# EAGLE library part 3M-SOIC-SOCKET (library LITTLEBITS140915)
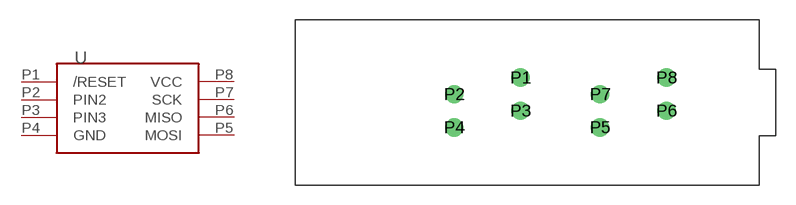
[diagram p24: symbol with the pads of 3M-SOIC-SOCKET; footprint 3M-SOIC-SOCKET]

Designator prefix -

## 3M-SOIC-SOCKET  [3M-SOIC-SOCKET]
P1  /RESET
P2  PIN2
P3  PIN3
P4  GND
P5  MOSI
P6  MISO
P7  SCK
P8  VCC

## 3M-SOIC-SOCKET3M-SOIC-SOCKET-EIAJ  [3M-SOIC-SOCKET]

## Footprint 3M-SOIC-SOCKET (pad centres in mm)
drill 0.9: P1 -3.048,1.905; P2 -8.128,0.635; P3 -3.048,-0.635; P4 -8.128,-1.905; P5 3.048,-1.905; P6 8.128,-0.635; P7 3.048,0.635; P8 8.128,1.905